# Altium schematic symbol library SIM Card.SchLib: 3 symbols
Pins are listed as number, name and electrical type; pins without a type are passive.

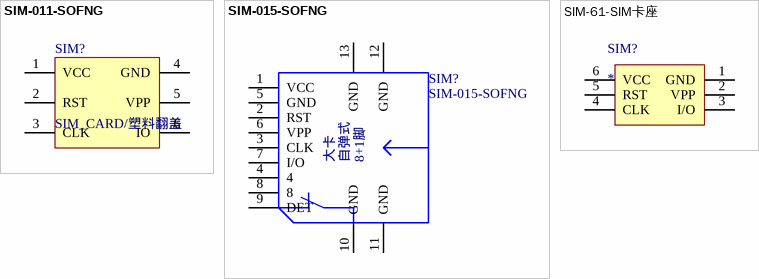
[diagram p0: symbols SIM-011-SOFNG to SIM-61-SIM卡座]

## SIM-011-SOFNG
designator SIM?, comment SIM_CARD/塑料翻盖
footprint SIM-011-SOFNG
pins: 1 VCC, 2 RST, 3 CLK, 4 GND, 5 VPP, 6 IO
2 alternate drawings of the same symbol

## SIM-015-SOFNG
designator SIM?
footprint SIM-015-SOFNG
pins: 1 VCC, 2 RST, 3 CLK, 4, 5 GND, 6 VPP, 7 I/O, 8, 9 DET, 10 GND, 11 GND, 12 GND, 13 GND
text: 大卡; 自弹式; 8+1脚

## SIM-61-SIM卡座
designator SIM?
footprint SIM-61-SIM卡座
pins: 1 GND, 2 VPP, 3 I/O, 4 CLK, 5 RST, 6 VCC